# EAGLE library part BAS16VV (library Diodes)
Diode Array 3 Independent Standard 100V 200mA (DC) Surface Mount SOT-563, SOT-666
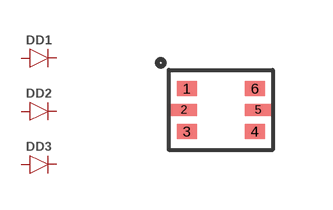
[diagram p2: symbol with the pads of SOT666; footprint SOT666]

Designator prefix D; gates D1=D D2=D D3=D

## BAS16VV (DIGIKEY#: 1727-6170-2-ND; MANF: Nexperia USA Inc; MANF#: BAS16VV,115)  [SOT666]
1  D1:A  pas
2  D2:A  pas
3  D3:A  pas
4  D3:C  pas
5  D2:C  pas
6  D1:C  pas

## Footprint SOT666 (pad centres in mm)
smd 0.5 x 0.375: 1 -0.85,0.537; 3 -0.85,-0.537; 4 0.85,-0.537; 6 0.85,0.537
smd 0.65 x 0.3: 2 -0.925,0; 5 0.925,0